# EAGLE library part ADAFRUIT938 (library logick)
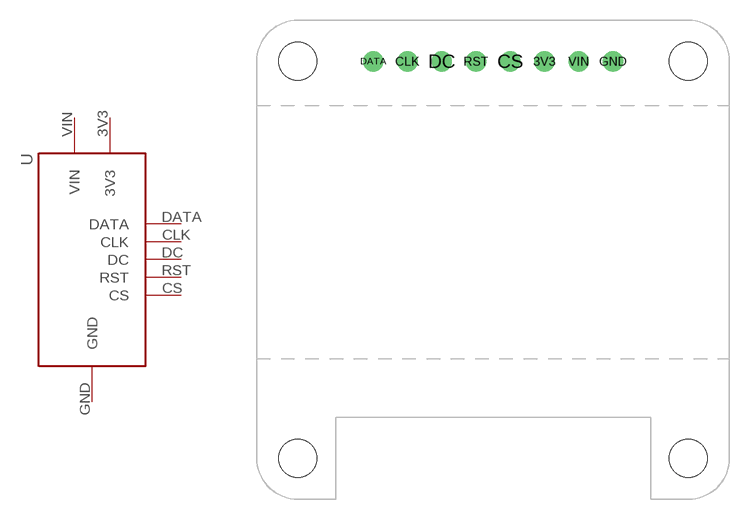
[diagram p12: symbol with the pads of ADAFRUIT938; footprint ADAFRUIT938]

Designator prefix -

## ADAFRUIT938  [ADAFRUIT938]
3V3  3V3  sup
CLK  CLK  in
CS  CS  out
DATA  DATA  out
DC  DC  in
GND  GND  sup
RST  RST  in
VIN  VIN  sup

## Footprint ADAFRUIT938 (pad centres in mm)
drill 1: 3V3 3.81,0; CLK -6.35,0; CS 1.27,0; DATA -8.89,0; DC -3.81,0; GND 8.89,0; RST -1.27,0; VIN 6.35,0
hole 2.8 at -14.478,0
hole 2.8 at 14.478,0
hole 2.8 at -14.478,-29.464
hole 2.8 at 14.478,-29.464